# Altium footprint library RFID  Board PCB.PcbLib: 57 footprints (part 4 of 4)
Each footprint in its own frame and in the unit in brackets; x right, y up, seen from the top. Pads: shape width x height; smd on the part's side, far side on the other; paste and mask are expansions set on the pad; w line width, h text height; cw(c..) or ccw(c..) is an arc to the next point about the centre after c.
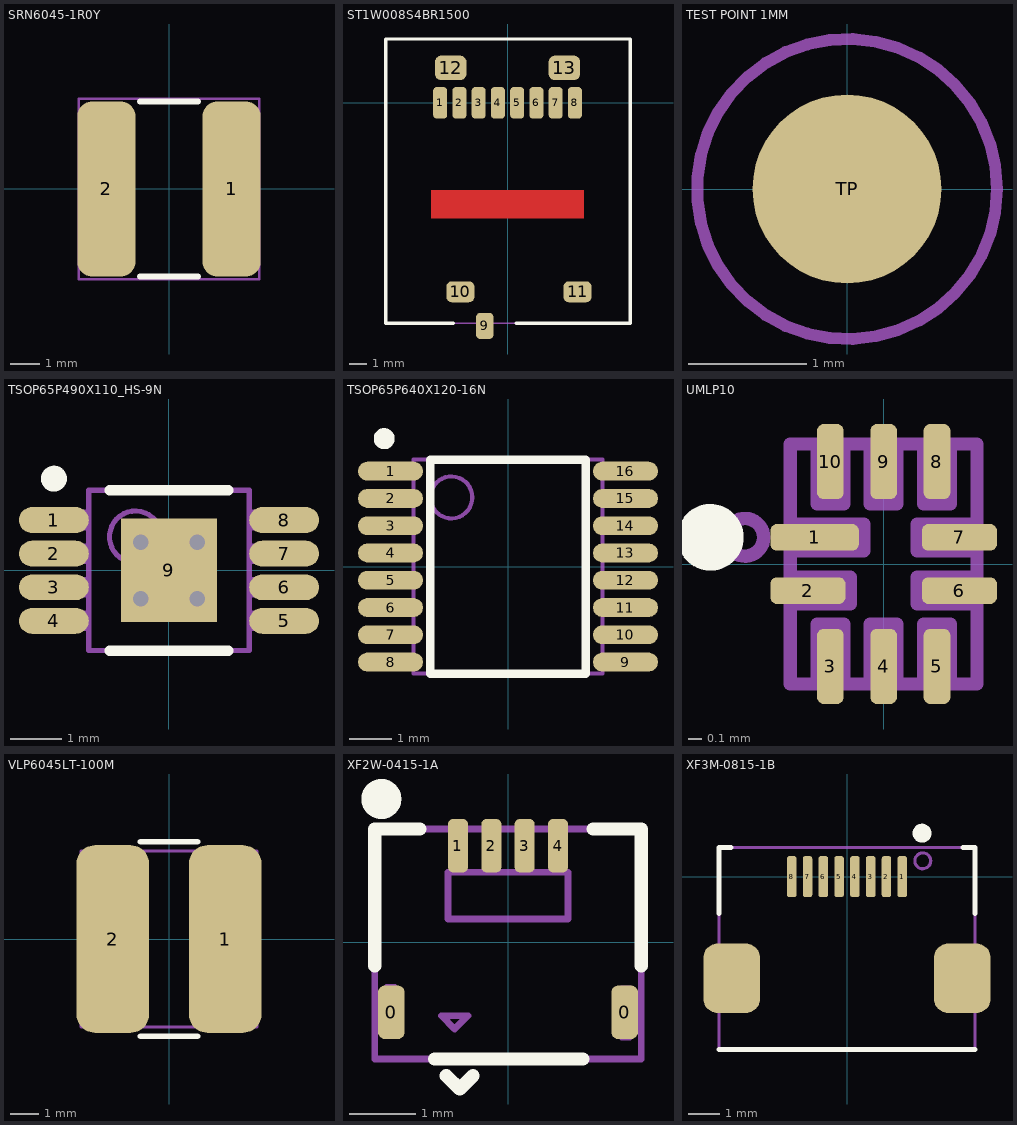
[diagram p3: the footprints below, top view; thin cyan lines are the x and y axes]

## SRN6045-1R0Y [mm] "6mm x 6mm, 2 pin Inductor"
height 4.5
pads (2):
  rrect50% 2x6 smd: 1(2.15,0) 2(-2.15,0)
Top Overlay:
  lines w0.2: -1,-3 1,-3 ; -1,3 1,3
Mechanical 13:
  lines w0.1: -3.1,-3.1 3.1,-3.1 3.1,3.1 -3.1,3.1 -3.1,-3.1
  text ".Designator" at -2.75,-0.75 h1.5
Mechanical 15:
  lines w0.1: -3.1,-2.5 -1.25,-2.5 -1.25,2.5 -3.1,2.5 ; 3.1,-2.5 1.25,-2.5 1.25,2.5 3.1,2.5 ; -3.1,-3.1 -3.1,3.1 3.1,3.1 3.1,-3.1 -3.1,-3.1
3D body: height 4.5, standoff 0.05, extent -3.1,-3.1 3.1,3.1

## ST1W008S4BR1500 [mm] "JAE micro-SD card slot, 13.85 x 21.55 mm"
height 1.7
pads (13):
  rrect50% 0.8x1.8 smd: 1(-3.85,0) 2(-2.75,0) 3(-1.65,0) 4(-0.55,0) 5(0.55,0) 6(1.65,0) 7(2.75,0) 8(3.85,0)
  rrect50% 1x1.5 smd: 9(-1.3,-12.75)
  rrect50% 1.6x1.2 smd: 10(-2.7,-10.8) 11(4,-10.8)
  rrect50% 1.8x1.4 smd: 12(-3.25,2) 13(3.25,2)
Top Layer:
  pour cut-out: -4.35,-5 4.35,-5 4.35,-6.6 -4.35,-6.6
Top Overlay:
  lines w0.2: -6.95,3.6 -6.95,-1.925 -6.95,-6.375 -6.95,-12.6 -3.1,-12.6 ; -6.95,3.65 7,3.65 7,-12.6 0.5,-12.6
Mechanical 13:
  lines w0.1: -6.95,-12.6 7,-12.6 7,3.65 -6.95,3.65 -6.95,-12.6
  text ".Designator" at 1,-10.4 h1.2
Mechanical 15:
  lines w0.1: -6.95,-12.6 7,-12.6 7,3.65 -6.95,3.65 -6.95,-12.6 ; -4.05,-0.45 -4.05,0.15 -3.65,0.15 -3.65,-0.45 -4.05,-0.45 ; -3.925,1.6 -3.925,2.4 -2.85,2.4 -2.85,1.6 -3.925,1.6 ; -3.2,-11.075 -2.4,-11.075 -2.4,-10.5 -3.2,-10.5 -3.2,-11.075 ; -2.95,-0.45 -2.55,-0.45 -2.55,0.15 -2.95,0.15 -2.95,-0.45 ; -1.85,-0.45 -1.45,-0.45 -1.45,0.15 -1.85,0.15 -1.85,-0.45 ; -1.6,-13.1 -0.975,-13.1 -0.975,-12.6 -1.6,-12.6 -1.6,-13.1 ; -0.75,-0.45 -0.75,0.15 -0.35,0.15 -0.35,-0.45 -0.75,-0.45 ; 0.35,-0.45 0.75,-0.45 0.75,0.15 0.35,0.15 0.35,-0.45 ; 1.45,-0.45 1.45,0.15 1.85,0.15 1.85,-0.45 1.45,-0.45 ; 2.55,-0.45 2.95,-0.45 2.95,0.15 2.55,0.15 2.55,-0.45 ; 2.85,1.6 3.925,1.6 3.925,2.4 2.85,2.4 2.85,1.6 ; 3.65,-0.45 3.65,0.15 4.05,0.15 4.05,-0.45 3.65,-0.45 ; 3.7,-11.075 3.7,-10.5 4.525,-10.5 4.525,-11.075 3.7,-11.075
3D body "ST1W008S4E-V1_JAE_Proprietary.STEP": height 1.9, standoff 0, extent -7.025,-12.6 7.025,3.7

## TEST POINT 1MM [mm] "SMD Test Point 1mm"
pads (1):
  round 1.6 smd paste-0.5 mask+0: TP(0,0)
Mechanical 13:
  circle w0.1: c0,0 r1.27
  text ".Designator" at -1.2,-0.275 h0.51

## TSOP65P490X110_HS-9N [mm] "TSOP, 8-Leads, Body 3.00x3.00mm, Pitch 0.65mm, Thermal Pad 2.00x1.85mm, IPC Medium Density"
height 1.1
pads (9):
  oval 1.35x0.5 smd: 1(-2.225,0.975) 2(-2.225,0.325) 3(-2.225,-0.325) 4(-2.225,-0.975) 5(2.225,-0.975) 6(2.225,-0.325) 7(2.225,0.325) 8(2.225,0.975)
  rect 1.85x2 smd: 9(0,0)
via 0.55,-0.55 diameter 0.5 hole 0.3
via -0.55,-0.55 diameter 0.5 hole 0.3
via 0.55,0.55 diameter 0.5 hole 0.3
via -0.55,0.55 diameter 0.5 hole 0.3
Top Overlay:
  circle w0.25: c-2.225,1.775 r0.125
  lines w0.2: -1.15,-1.55 1.15,-1.55 ; -1.15,1.55 1.15,1.55
Mechanical 13:
  circle w0.1: c-0.65,0.65 r0.5
  lines w0.1: -1.55,-1.55 1.55,-1.55 1.55,1.55 -1.55,1.55 -1.55,-1.55
  text ".Designator" at -1.3,-0.5 h1
Mechanical 15:
  lines w0.1: -1.55,-1.125 -1.925,-1.125 ; -1.55,-0.825 -1.925,-0.825 ; -1.55,-0.475 -1.925,-0.475 ; -1.55,-0.175 -1.925,-0.175 ; -1.55,0.175 -1.925,0.175 ; -1.55,0.475 -1.925,0.475 ; -1.55,0.825 -1.925,0.825 ; -1.55,1.125 -1.925,1.125 ; 1.55,-1.125 1.925,-1.125 ; 1.55,-0.825 1.925,-0.825 ; 1.55,-0.475 1.925,-0.475 ; 1.55,-0.175 1.925,-0.175 ; 1.55,0.175 1.925,0.175 ; 1.55,0.475 1.925,0.475 ; 1.55,0.825 1.925,0.825 ; 1.55,1.125 1.925,1.125 ; -1.925,-1.125 -1.925,-0.825 ; -1.925,-1.125 -2.45,-1.125 -2.45,-0.825 -1.925,-0.825 ; -1.925,-0.475 -1.925,-0.175 ; -1.925,-0.475 -2.45,-0.475 -2.45,-0.175 -1.925,-0.175 ; -1.925,0.175 -1.925,0.475 ; -1.925,0.175 -2.45,0.175 -2.45,0.475 -1.925,0.475 ; -1.925,0.825 -1.925,1.125 ; -1.925,0.825 -2.45,0.825 -2.45,1.125 -1.925,1.125 ; 1.925,-1.125 2.45,-1.125 2.45,-0.825 1.925,-0.825 ; 1.925,-1.125 1.925,-0.825 ; 1.925,-0.475 2.45,-0.475 2.45,-0.175 1.925,-0.175 ; 1.925,-0.475 1.925,-0.175 ; 1.925,0.175 2.45,0.175 2.45,0.475 1.925,0.475 ; 1.925,0.175 1.925,0.475 ; 1.925,0.825 2.45,0.825 2.45,1.125 1.925,1.125 ; 1.925,0.825 1.925,1.125 ; -1.55,-1.55 1.55,-1.55 1.55,1.55 -1.55,1.55 -1.55,-1.55
3D body: height 1.1, standoff 0.1, extent -1.55,-1.55 1.55,1.55

## TSOP65P640X120-16N [mm] "TSOP, 16-Leads, Body 5.00x4.40mm, Pitch 0.65mm, IPC Medium Density"
height 1.2
pads (16):
  oval 1.55x0.45 smd: 1(-2.8,2.275) 2(-2.8,1.625) 3(-2.8,0.975) 4(-2.8,0.325) 5(-2.8,-0.325) 6(-2.8,-0.975) 7(-2.8,-1.625) 8(-2.8,-2.275) 9(2.8,-2.275) 10(2.8,-1.625) 11(2.8,-0.975) 12(2.8,-0.325) 13(2.8,0.325) 14(2.8,0.975) 15(2.8,1.625) 16(2.8,2.275)
Top Overlay:
  circle w0.25: c-2.95,3.05 r0.125
  lines w0.2: -1.85,-2.55 -1.85,2.55 1.85,2.55 1.85,-2.55 -1.85,-2.55
Mechanical 13:
  circle w0.1: c-1.35,1.65 r0.5
  lines w0.1: -2.25,-2.55 -2.25,2.55 2.25,2.55 2.25,-2.55 -2.25,-2.55
  text ".Designator" at -1.925,-1.35 h2
Mechanical 15:
  lines w0.1: -2.25,-2.425 -2.55,-2.425 ; -2.25,-2.125 -2.55,-2.125 ; -2.25,-1.775 -2.55,-1.775 ; -2.25,-1.475 -2.55,-1.475 ; -2.25,-1.125 -2.55,-1.125 ; -2.25,-0.825 -2.55,-0.825 ; -2.25,-0.475 -2.55,-0.475 ; -2.25,-0.175 -2.55,-0.175 ; -2.25,0.175 -2.55,0.175 ; -2.25,0.475 -2.55,0.475 ; -2.25,0.825 -2.55,0.825 ; -2.25,1.125 -2.55,1.125 ; -2.25,1.475 -2.55,1.475 ; -2.25,1.775 -2.55,1.775 ; -2.25,2.125 -2.55,2.125 ; -2.25,2.425 -2.55,2.425 ; 2.25,-2.425 2.55,-2.425 ; 2.25,-2.125 2.55,-2.125 ; 2.25,-1.775 2.55,-1.775 ; 2.25,-1.475 2.55,-1.475 ; 2.25,-1.125 2.55,-1.125 ; 2.25,-0.825 2.55,-0.825 ; 2.25,-0.475 2.55,-0.475 ; 2.25,-0.175 2.55,-0.175 ; 2.25,0.175 2.55,0.175 ; 2.25,0.475 2.55,0.475 ; 2.25,0.825 2.55,0.825 ; 2.25,1.125 2.55,1.125 ; 2.25,1.475 2.55,1.475 ; 2.25,1.775 2.55,1.775 ; 2.25,2.125 2.55,2.125 ; 2.25,2.425 2.55,2.425 ; -2.55,-2.425 -2.55,-2.125 ; -2.55,-2.425 -3.3,-2.425 -3.3,-2.125 -2.55,-2.125 ; -2.55,-1.775 -2.55,-1.475 ; -2.55,-1.775 -3.3,-1.775 -3.3,-1.475 -2.55,-1.475 ; -2.55,-1.125 -2.55,-0.825 ; -2.55,-1.125 -3.3,-1.125 -3.3,-0.825 -2.55,-0.825 ; -2.55,-0.475 -2.55,-0.175 ; -2.55,-0.475 -3.3,-0.475 -3.3,-0.175 -2.55,-0.175 ; -2.55,0.175 -2.55,0.475 ; -2.55,0.175 -3.3,0.175 -3.3,0.475 -2.55,0.475 ; -2.55,0.825 -2.55,1.125 ; -2.55,0.825 -3.3,0.825 -3.3,1.125 -2.55,1.125 ; -2.55,1.475 -2.55,1.775 ; -2.55,1.475 -3.3,1.475 -3.3,1.775 -2.55,1.775 ; -2.55,2.125 -2.55,2.425 ; -2.55,2.125 -3.3,2.125 -3.3,2.425 -2.55,2.425 ; 2.55,-2.425 3.3,-2.425 3.3,-2.125 2.55,-2.125 ; 2.55,-2.425 2.55,-2.125 ; 2.55,-1.775 3.3,-1.775 3.3,-1.475 2.55,-1.475 ; 2.55,-1.775 2.55,-1.475 ; 2.55,-1.125 3.3,-1.125 3.3,-0.825 2.55,-0.825 ; 2.55,-1.125 2.55,-0.825 ; 2.55,-0.475 3.3,-0.475 3.3,-0.175 2.55,-0.175 ; 2.55,-0.475 2.55,-0.175 ; 2.55,0.175 3.3,0.175 3.3,0.475 2.55,0.475 ; 2.55,0.175 2.55,0.475 ; 2.55,0.825 3.3,0.825 3.3,1.125 2.55,1.125 ; 2.55,0.825 2.55,1.125 ; 2.55,1.475 3.3,1.475 3.3,1.775 2.55,1.775 ; 2.55,1.475 2.55,1.775 ; 2.55,2.125 3.3,2.125 3.3,2.425 2.55,2.425 ; 2.55,2.125 2.55,2.425 ; -2.25,-2.55 -2.25,2.55 2.25,2.55 2.25,-2.55 -2.25,-2.55
3D body: height 1.2, standoff 0.05, extent -2.25,-2.55 2.25,2.55

## UMLP10 [mm] "UMLP 10 pin 1.4x1.8mm"
height 0.55
pads (10):
  rrect50% 0.664x0.2 smd: 1(-0.518,0.2)
  rrect50% 0.564x0.2 smd: 2(-0.568,-0.2) 6(0.568,-0.2) 7(0.568,0.2)
  rrect50% 0.2x0.564 smd: 3(-0.4,-0.768) 4(0,-0.768) 5(0.4,-0.768) 8(0.4,0.768) 9(0,0.768) 10(-0.4,0.768)
Top Overlay:
  circle w0.3: c-1.3,0.2 r0.1
Mechanical 13:
  circle w0.1: c-1.041,0.2 r0.141
  lines w0.1: -0.7,-0.9 0.7,-0.9 0.7,0.9 -0.7,0.9 -0.7,-0.9
  text ".Designator" at 0.2,-0.7 h0.4
Mechanical 15:
  circle w0.1: c-1.041,0.2 r0.141
  lines w0.1: -0.7,-0.3 -0.25,-0.3 -0.25,-0.1 -0.7,-0.1 ; -0.7,0.1 -0.15,0.1 -0.15,0.3 -0.7,0.3 ; -0.5,-0.9 -0.5,-0.45 -0.3,-0.45 -0.3,-0.9 ; -0.5,0.9 -0.5,0.45 -0.3,0.45 -0.3,0.9 ; -0.1,-0.9 -0.1,-0.45 0.1,-0.45 0.1,-0.9 ; -0.1,0.9 -0.1,0.45 0.1,0.45 0.1,0.9 ; 0.3,-0.9 0.3,-0.45 0.5,-0.45 0.5,-0.9 ; 0.3,0.9 0.3,0.45 0.5,0.45 0.5,0.9 ; 0.7,-0.3 0.25,-0.3 0.25,-0.1 0.7,-0.1 ; 0.7,0.1 0.25,0.1 0.25,0.3 0.7,0.3 ; -0.7,-0.9 -0.7,0.9 0.7,0.9 0.7,-0.9 -0.7,-0.9
3D body: height 0.55, standoff 0, extent -0.7,-0.9 0.7,0.9

## VLP6045LT-100M [mm] "6mm x 6mm, 2 pin Inductor"
height 4.5
pads (2):
  rrect50% 2.55x6.6 smd: 1(1.975,0) 2(-1.975,0)
Top Overlay:
  lines w0.2: -1,-3.425 1,-3.425 ; -1,3.425 1,3.425
Mechanical 13:
  lines w0.1: -3.1,-3.1 3.1,-3.1 3.1,3.1 -3.1,3.1 -3.1,-3.1
  text ".Designator" at -2.75,-0.75 h1.5
Mechanical 15:
  lines w0.1: -3.1,-2.5 -1.25,-2.5 -1.25,2.5 -3.1,2.5 ; 3.1,-2.5 1.25,-2.5 1.25,2.5 3.1,2.5 ; -3.1,-3.1 -3.1,3.1 3.1,3.1 3.1,-3.1 -3.1,-3.1
3D body: height 4.5, standoff 0.05, extent -3.1,-3.1 3.1,3.1

## XF2W-0415-1A [mm] "FPC Connector, 4 pos, 0.5mm pitch"
height 1.1
pads (6):
  rrect50% 0.4x0.8 smd: 0(-1.75,-1.05) 0(1.75,-1.05)
  rrect50% 0.3x0.8 smd mask+0.05: 1(-0.75,1.45) 2(-0.25,1.45) 3(0.25,1.45) 4(0.75,1.45)
Top Overlay:
  circle w0.3: c-1.9,2.15 r0.15
  lines w0.2: -2,-0.35 -2,1.7 -1.325,1.7 ; -1.1,-1.75 1.125,-1.75 ; -0.925,-2 -0.725,-2.2 -0.525,-2 ; 1.275,1.7 2,1.7 2,-0.35
Mechanical 13:
  circle w0.1: c-1.9,2.025 r0.1
  lines w0.1: -1.5,1.7 -2,1.7 -2,-1.75 2,-1.75 2,1.7 1.5,1.7 ; -0.9,0.35 -0.9,1.05 0.9,1.05 0.9,0.35 -0.9,0.35
  text "no pattern" at -0.7,0.65 h0.15
  text ".Designator" at -1.475,-1.075 h0.8
Mechanical 15:
  circle w0.1: c-1.9,2.025 r0.1
  lines w0.1: -2,-1.75 2,-1.75 2,1.7 -2,1.7 -2,-1.75 ; -1.82,-1.4 -1.82,-0.675 -1.7,-0.675 -1.7,-1.4 -1.82,-1.4 ; -1,-1.1 -0.6,-1.1 -0.8,-1.3 -1,-1.1 ; -0.81,1.3 -0.81,1.7 -0.69,1.7 -0.69,1.3 -0.81,1.3 ; -0.31,1.3 -0.31,1.7 -0.19,1.7 -0.19,1.3 -0.31,1.3 ; 0.19,1.3 0.19,1.7 0.31,1.7 0.31,1.3 0.19,1.3 ; 0.69,1.3 0.69,1.7 0.81,1.7 0.81,1.3 0.69,1.3 ; 1.705,-1.425 1.825,-1.425 1.825,-0.7 1.705,-0.7 1.705,-1.425
3D body "XF2W_0415_1A.step": height 1.1, standoff 0, extent -2,-1.75 2,1.75

## XF3M-0815-1B [mm] "Connector, FFC, Flip, Top & Bottom, 8 way, 2mm Height, Right-Angle, 6.4x8.1mm"
height 2
pads (10):
  rrect50% 0.3x1.3 smd: 1(1.75,0) 2(1.25,0) 3(0.75,0) 4(0.25,0) 5(-0.25,0) 6(-0.75,0) 7(-1.25,0) 8(-1.75,0)
  rrect50% 1.8x2.2 smd: ""(-3.65,-3.22) ""(3.65,-3.22)
Top Overlay:
  circle w0.3: c2.375,1.375 r0.15
  lines w0.152: -4.05,-5.475 4.05,-5.475 ; -4.05,-1.175 -4.05,0.925 -3.675,0.925 ; 3.675,0.925 4.05,0.925 4.05,-1.175
Mechanical 13:
  circle w0.1: c2.4,0.5 r0.25
  lines w0.102: -4.05,-5.475 4.05,-5.475 4.05,0.925 -4.05,0.925 -4.05,-5.475
  text ".Designator" at -1.325,-2.225 h1
Mechanical 15:
  lines w0.1: -4.05,-3.85 -4.05,-2.65 -3.25,-2.65 -3.25,-3.85 -4.05,-3.85 ; 3.25,-3.85 3.25,-2.65 4.05,-2.65 4.05,-3.85 3.25,-3.85
  lines w0.102: -4.05,-5.475 4.05,-5.475 4.05,0.925 -4.05,0.925 -4.05,-5.475
  lines w0.15: -1.75,-0.275 -1.75,0.2 ; -1.25,-0.275 -1.25,0.2 ; -0.75,-0.275 -0.75,0.2 ; -0.25,-0.275 -0.25,0.2 ; 0.25,-0.275 0.25,0.2 ; 0.75,-0.275 0.75,0.2 ; 1.25,-0.275 1.25,0.2 ; 1.75,-0.275 1.75,0.2
3D body "XF3M_0815_1B.STEP": height 2, standoff 0, extent -4.05,-5.475 4.05,0.925